# Altium schematic symbol library 充放电.SCHLIB: 21 symbols
Pins are listed as number, name and electrical type; pins without a type are passive.

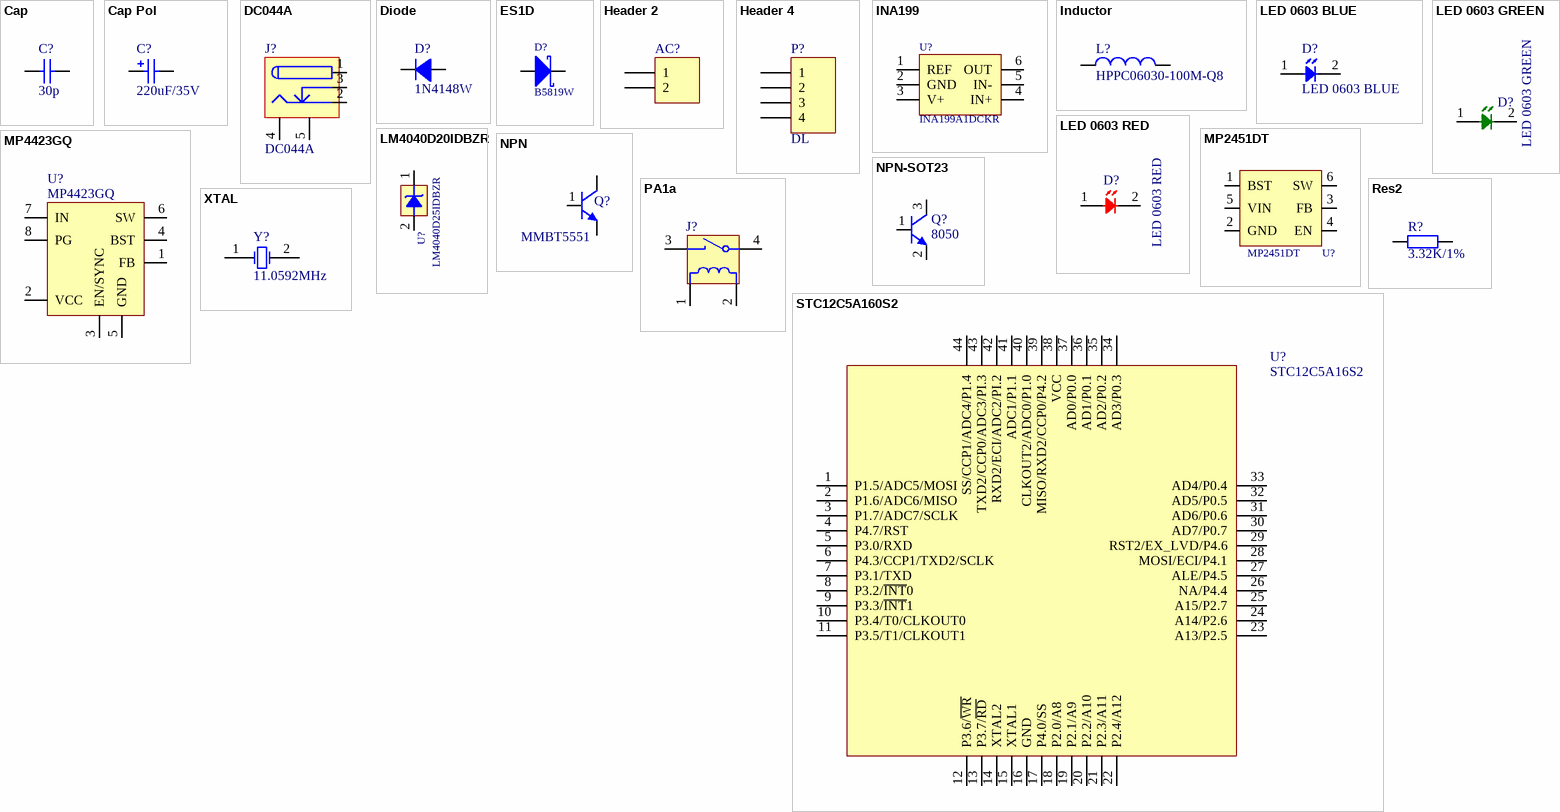
[diagram p0: symbols Cap to XTAL]

## Cap
designator C?, comment 30p
Capacitor; Published: 8-Jun-2000; LatestRevisionDate: 17-Jul-2002; LatestRevisionNote: Re-released for DXP Platform.; Publisher: Altium Limited
footprint RAD-0.3 (Capacitor; 2 Leads)
footprint CAPR2.54-5.1x3.2 (Capacitor, Ceramic, Thru-Hole, Dipped Radial; Body 5.1 x 3.2 mm (WxT) Pin Spacing 2.54 mm (typ))
footprint CAPR5.08-7.8x3.2 (Capacitor, Ceramic, Thru-Hole, Dipped Radial; Body 7.8 x 3.2 mm (WxT) Pin Spacing 5.08 mm (typ))
simulation model CAP (Capacitor)
signal-integrity model Cap
footprint 0805
footprint 0603S
pins: 1, 2

## Cap Pol
designator C?, comment 220uF/35V
footprint SMD6.3
pins: 1, 2

## DC044A
designator J?
Low Voltage Power Supply Connector; Manufacturers: Without specifying; 1000 Price  RMB: 0.3; 10 Price  RMB: 0.5
footprint DC044
signal-integrity model Connector
pins: 1 (power), 2 (power), 3 (power), 4, 5

## Diode
designator D?, comment 1N4148W
HIGH-SPEED   SWITCHING DIODE; Manufacturers: ST; 10 Price  RMB: 0.0624; 1000 Price  RMB: 0.0472
footprint SOD123
footprint SOD123
pins: 1 A, 2 K

## ES1D
designator D?, comment B5819W
SCHOTTKY BARRIER DIODE; Manufacturers: CHANGJIANG; 10 Price  RMB: 0.25; 1000 Price  RMB: 0.15
simulation model ES1D (DIODE)
footprint SOD123
pins: 1 A, 2 K
1 alternate drawing of the same symbol

## Header 2
designator AC?  (value not drawn)
Header, 2-Pin; LatestRevisionDate: 17-Jul-2002; LatestRevisionNote: Re-released for DXP Platform.; Publisher: Altium Limited
footprint HDR1X2 (Connector; Header; 2 Position)
signal-integrity model Connector
footprint P5.08-2P
pins: 1, 2

## Header 4
designator P?, comment DL
Header, 4-Pin; LatestRevisionDate: 17-Jul-2002; LatestRevisionNote: Re-released for DXP Platform.; Publisher: Altium Limited
footprint HDR1X4 (Connector; Header; 4 Position)
signal-integrity model Connector
footprint XH2.5S-4P
pins: 1, 2, 3, 4

## INA199
designator U?, comment INA199A1DCKR
INA199 26-V, Bidirectional, Zero-Drift, Low- or High-Side, Voltage-Output, Current-Shunt Monitor; Manufacturers: TI; Manufacturer's Footprint: SC70; 1000 Price  RMB: 3; 10 Price  RMB: 5
footprint SC70-6L
pins: 1 REF, 2 GND, 3 V+, 4 IN+, 5 IN-, 6 OUT

## Inductor
designator L?, comment HPPC06030-100M-Q8
Low Profile, High Current IHLP®Inductors; Manufacturers: Vishay; 10 Price  RMB: 3; 1000 Price  RMB: 2.5; Manufacturer's Footprint: Manufacturer's Footprint
footprint L-SMD0707-B
pins: 1, 2

## LED 0603 BLUE
designator D?
10 Price  RMB: 0.2; 1000 Price  RMB: 0.1; Manufacturers: *
footprint LED0603-BLUE (Footprint not found)
footprint LED0805
pins: 1, 2

## LED 0603 GREEN
designator D?
10 Price  RMB: 0.2; 1000 Price  RMB: 0.1; Manufacturers: *
footprint LED0603-GREEN (Footprint not found)
pins: 1, 2

## LED 0603 RED
designator D?
10 Price  RMB: 0.2; 1000 Price  RMB: 0.1; Manufacturers: *
footprint LED0603-RED (Footprint not found)
pins: 1, 2

## LM4040D20IDBZR
designator U?, comment LM4040D25IDBZR
2.048V Shunt VoltageReferences; Manufacturers: TI; 1000 Price  RMB: 0.77; 10 Price  RMB: 1.26
footprint SOT23-3
pins: 1 A, 2 K

## MP2451DT
designator U?
36V, 2MHz, 0.6A   Step-Down Converter; Manufacturers: MPS; 10 Price  RMB: 1.72; 1000 Price  RMB: 1.14
footprint SOT23-6
pins: 1 BST, 2 GND, 3 FB, 4 EN, 5 VIN, 6 SW

## MP4423GQ
designator U?
High Efficiency 3A, 36V,   Synchronous Step Down Converter; Manufacturers: MPS; Manufacturer's Footprint: QFN-8; 10 Price  RMB: 10; 1000 Price  RMB: 9
footprint QFN-8
pins: 1 FB, 2 VCC, 3 EN/SYNC, 4 BST, 5 GND, 6 SW, 7 IN, 8 PG

## NPN
designator Q?, comment MMBT5551
SOT-23 Plastic-Encapsulate Transistors; Manufacturers: ON/Fairchild/DIODES/UTC; 1000 Price  RMB: 0.06; 10 Price  RMB: 0.1
footprint SOT-23
footprint SOT23-3
pins: 1, 2, 3

## NPN-SOT23
designator Q?, comment 8050
SOT-23 Plastic -Encapsulate Transistors; 1000 Price  RMB: *; 10 Price  RMB: *; Manufacturers: *; Manufacturer's Footprint: *
footprint SOT23-3
pins: 1, 2, 3

## PA1a
designator J?, comment JDQ  (value not drawn)
footprint APAN3112
pins: 1, 2, 3, 4

## Res2
designator R?, comment 3.32K/1%
Resistor; Manufacturer's Footprint: 0603; Manufacturers: YAGEO/UniOhm; 10 Price  RMB: 0.01; 1000 Price  RMB: 0.0031; Tolerance: 1%
footprint AXIAL-0.4 (Resistor; 2 Leads)
simulation model RESISTOR (Resistor)
signal-integrity model Res
footprint 0805
footprint 0805R
footprint 0603R
footprint 0603RS
pins: 1, 2

## STC12C5A160S2
designator U?, comment STC12C5A16S2
footprint LQFP-44 (Body 12mmX12mmX1.2mm)
pins: 1 P1.5/ADC5/MOSI, 2 P1.6/ADC6/MISO, 3 P1.7/ADC7/SCLK, 4 P4.7/RST, 5 P3.0/RXD, 6 P4.3/CCP1/TXD2/SCLK, 7 P3.1/TXD, 8 P3.2/~{INT}0, 9 P3.3/~{INT}1, 10 P3.4/T0/CLKOUT0, 11 P3.5/T1/CLKOUT1, 12 P3.6/~{WR}, 13 P3.7/~{RD}, 14 XTAL2, 15 XTAL1, 16 GND, 17 P4.0/SS, 18 P2.0/A8, 19 P2.1/A9, 20 P2.2/A10, 21 P2.3/A11, 22 P2.4/A12, 23 A13/P2.5, 24 A14/P2.6, 25 A15/P2.7, 26 NA/P4.4, 27 ALE/P4.5, 28 MOSI/ECI/P4.1, 29 RST2/EX_LVD/P4.6, 30 AD7/P0.7, 31 AD6/P0.6, 32 AD5/P0.5, 33 AD4/P0.4, 34 AD3/P0.3, 35 AD2/P0.2, 36 AD1/P0.1, 37 AD0/P0.0, 38 VCC, 39 MISO/RXD2/CCP0/P4.2, 40 CLKOUT2/ADC0/P1.0, 41 ADC1/P1.1, 42 RXD2/ECI/ADC2/PI.2, 43 TXD2/CCP0/ADC3/PI.3, 44 SS/CCP1/ADC4/P1.4

## XTAL
designator Y?, comment 11.0592MHz
Crystal Oscillator; Published: 8-Jun-2000; LatestRevisionDate: 17-Jul-2002; LatestRevisionNote: Re-released for DXP Platform.; PackageReference: R38; Publisher: Altium Limited
footprint BCY-W2/D3.1 (Footprint not found)
simulation model XTAL (Spice Subcircuit)
footprint CRYSTAL5018-2
pins: 1 OSC1, 2 OSC2